# Altium schematic symbol library resistors.SchLib: 5 symbols
Pins are listed as number, name and electrical type; pins without a type are passive.

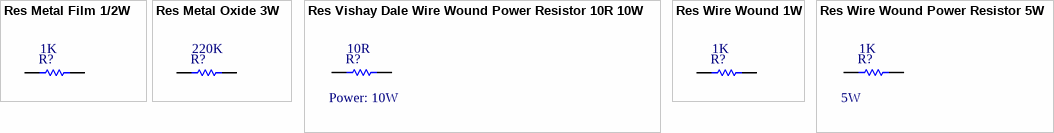
[diagram p0: symbols Res Metal Film 1/2W to Res Wire Wound Power Resistor 5W]

## Res Metal Film 1/2W
designator R?, comment value 1K  (hidden comment: Metal Film Resistor 1/2W)
Semiconductor Resistor; Published: 8-Jun-2000; LatestRevisionDate: 17-Jul-2002; LatestRevisionNote: 12-Fev-2014; PackageReference: AXIAL-0.5; Publisher: Whitesheep Amps; PackageDescription: Axial Device, Thru-Hole; 2 Leads; 0.5 in Pin Spacing; Power: 1/2W
simulation model RES (Semiconductor Resistor)
signal-integrity model Metal Film 1/2W (Metal Film Resistor 1/2Watt)
footprint AXIAL-0.6 (Axial Device, Thru-Hole; 2 Leads; 0.6 in Pin Spacing)
pins: 1, 2

## Res Metal Oxide 3W
designator R?, comment value 220K  (hidden comment: Metal Film Resistor 1/2W)
Semiconductor Resistor; Published: 8-Jun-2000; LatestRevisionDate: 17-Jul-2002; LatestRevisionNote: 12-Fev-2014; PackageReference: AXIAL-0.5; Publisher: Linda HandBuilt Amplifiers; PackageDescription: Axial Device, Thru-Hole; 2 Leads; 0.5 in Pin Spacing; Power: 1/2W
simulation model RES (Semiconductor Resistor)
signal-integrity model Metal Film 1/2W (Metal Film Resistor 1/2Watt)
footprint RESISTOR-MetalOxide-3W (Axial Device, Thru-Hole; 2 Leads; 0.6 in Pin Spacing)
pins: 1, 2

## Res Vishay Dale Wire Wound Power Resistor 10R 10W
designator R?, comment value 10R  Power: 10W  (hidden comment: Wire Wound Power Resistor)
Semiconductor Resistor; Published: 8-Jun-2014; LatestRevisionDate: 17-Jul-2002; LatestRevisionNote: 12-Fev-2014; PackageReference: AXIAL-1.0; Publisher: Whitesheep Amps; PackageDescription: Axial Device, Thru-Hole; 2 Leads; 0.5 in Pin Spacing
simulation model RES (Semiconductor Resistor)
signal-integrity model Wire Wound 5W (Wire Wound Resistor 5Watt)
footprint Power Wirewound Resistor 10W - Vishay Dale (Axial Device, Thru-Hole; 2 Leads; 50mm Pin Spacing)
pins: 1, 2

## Res Wire Wound 1W
designator R?, comment value 1K  (hidden comment: Metal Film Resistor 1/2W)
Semiconductor Resistor; Power: 1; Published: 8-Jun-2000; LatestRevisionDate: 29-Mar-2014; LatestRevisionNote: 19-Mar-2014; PackageReference: AXIAL-0.5; Publisher: Linda Hand Buit Amplifiers; PackageDescription: Axial Device, Thru-Hole; 2 Leads; 0.5 in Pin Spacing
simulation model RES (Semiconductor Resistor)
signal-integrity model Metal Film 1/2W (Metal Film Resistor 1/2Watt)
footprint AXIAL-0.6 (Axial Device, Thru-Hole; 2 Leads; 0.6 in Pin Spacing)
pins: 1, 2

## Res Wire Wound Power Resistor 5W
designator R?, comment value 1K  Power: 5W  (hidden comment: Wire Wound Power Resistor)
Semiconductor Resistor; Published: 8-Jun-2014; LatestRevisionDate: 17-Jul-2002; LatestRevisionNote: 12-Fev-2014; PackageReference: AXIAL-1.0; Publisher: Whitesheep Amps; PackageDescription: Axial Device, Thru-Hole; 2 Leads; 0.5 in Pin Spacing
simulation model RES (Semiconductor Resistor)
signal-integrity model Wire Wound 5W (Wire Wound Resistor 5Watt)
footprint Resistor Vishay 5W 1k Power Wirewound (Axial Device, Thru-Hole; 2 Leads; 1.0 in Pin Spacing)
pins: 1, 2